# EAGLE library part ATTINY85 (library tide_clock)
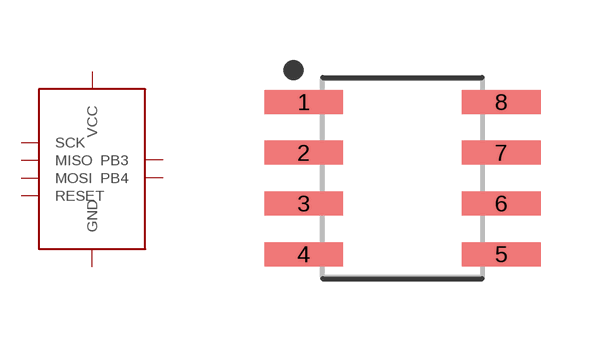
[diagram p18: symbol with the pads of SOIC127P599X175-8; footprint SOIC127P599X175-8]

Designator prefix -

## ATTINY85  [SOIC127P599X175-8]
1  RESET
2  PB3
3  PB4
4  GND
5  MOSI
6  MISO
7  SCK
8  VCC

## Footprint SOIC127P599X175-8 (pad centres in mm)
8-SOIC, 1.27 mm pitch, 6.00 mm span, 4.89 X 3.90 X 1.75 mm body 8-pin SOIC package with 1.27 mm pitch, 6.00 mm span with body size 4.89 X 3.90 X 1.75 mm
smd 1.972 x 0.599: 1 -2.472,1.905; 2 -2.472,0.635; 3 -2.472,-0.635; 4 -2.472,-1.905; 5 2.472,-1.905; 6 2.472,-0.635; 7 2.472,0.635; 8 2.472,1.905